# Altium schematic symbol library AD9744ARU.SchLib: 1 symbol
Pins are listed as number, name and electrical type; pins without a type are passive.

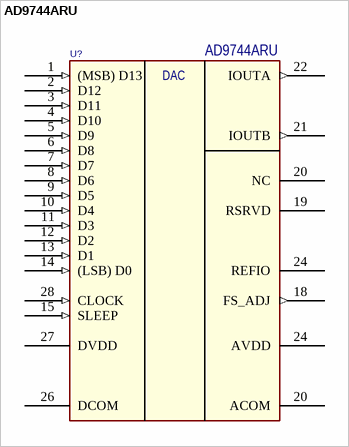
[diagram p0: symbol AD9744ARU]

## AD9744ARU
designator U?
14-Bit, 210 MSPS DAC; Потребление, Вт: 0,150; ComponentLink1Description: DataSheet; ComponentLink1URL: https://www.analog.com/media/en/technical-documentation/data-sheets/AD9744.pdf; Supplier 1: Digi-Key; Supplier Part Number 1: AD9744ARUZ-ND; Назначение: 14-Bit, 210 MSPS DAC; Наименование: AD9744ARU
ibis AD9744ARU (Model Description)
footprint TSOP-28N (TSOP, 28-Leads, Body 9,70x4,40mm, Pitch 0,65mm, IPC Medium Density)
pins: 1 (MSB) D13 (in), 2 D12 (in), 3 D11 (in), 4 D10 (in), 5 D9 (in), 6 D8 (in), 7 D7 (in), 8 D6 (in), 9 D5 (in), 10 D4 (in), 11 D3 (in), 12 D2 (in), 13 D1 (in), 14 (LSB) D0  (in), 15 SLEEP (in), 18 FS_ADJ (out), 19 RSRVD, 20 ACOM, 20 NC (hiz), 21 IOUTB (out), 22 IOUTA (out), 24 REFIO (power), 24 AVDD (power), 26 DCOM (power), 27 DVDD, 28 CLOCK (in)
text: DAC